# EAGLE library part SEEED-RESISTOR-2016_SMD-RES-ARRAY-1K-4R(RA1206-8) (library ATM90E36_Breakout)
301030012
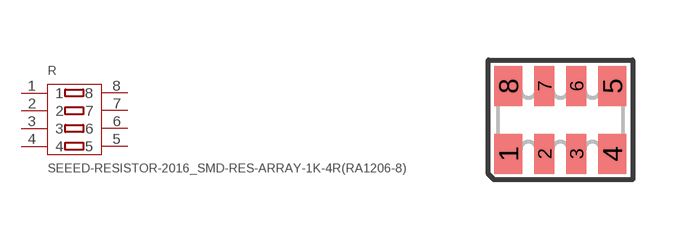
[diagram p2: symbol with the pads of SEEED-RESISTOR-2016_RA1206-8; footprint SEEED-RESISTOR-2016_RA1206-8]

Designator prefix R

## SEEED-RESISTOR-2016_SMD-RES-ARRAY-1K-4R(RA1206-8) (MPN: Chip-Array-Series-1%; VALUE: 1K)  [SEEED-RESISTOR-2016_RA1206-8]
1  1
2  2
3  3
4  4
5  5
6  6
7  7
8  8

## Footprint SEEED-RESISTOR-2016_RA1206-8 (pad centres in mm)
BOURNS Chip Resistor Array Source: RS Component / BUORNS
smd 0.7 x 1: 1 -1.3,-0.85; 4 1.3,-0.85; 5 1.3,0.85; 8 -1.3,0.85
smd 0.5 x 1: 2 -0.4,-0.85; 3 0.4,-0.85; 6 0.4,0.85; 7 -0.4,0.85